# Altium schematic symbol library TXB0108.SchLib: 1 symbol
Pins are listed as number, name and electrical type; pins without a type are passive.

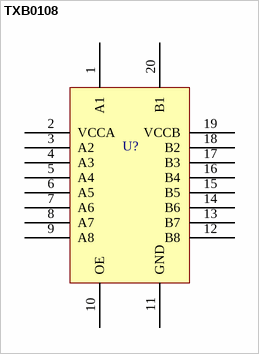
[diagram p0: symbol TXB0108]

## TXB0108
designator U?  (value not drawn)
Translation - Voltage Levels 8-Bit Bi-directional V-Level Translator; Supplier 1: Mouser; Supplier Part Number 1: 595-TXB0108RGYR
footprint TXB0108 (Translation - Voltage Levels 8-Bit Bi-directional V-Level Translator)
pins: 1 A1, 2 VCCA (power), 3 A2, 4 A3, 5 A4, 6 A5, 7 A6, 8 A7, 9 A8, 10 OE, 11 GND, 12 B8, 13 B7, 14 B6, 15 B5, 16 B4, 17 B3, 18 B2, 19 VCCB, 20 B1